# Altium schematic symbol library Schlib1.SchLib: 1 symbol
Pins are listed as number, name and electrical type; pins without a type are passive.

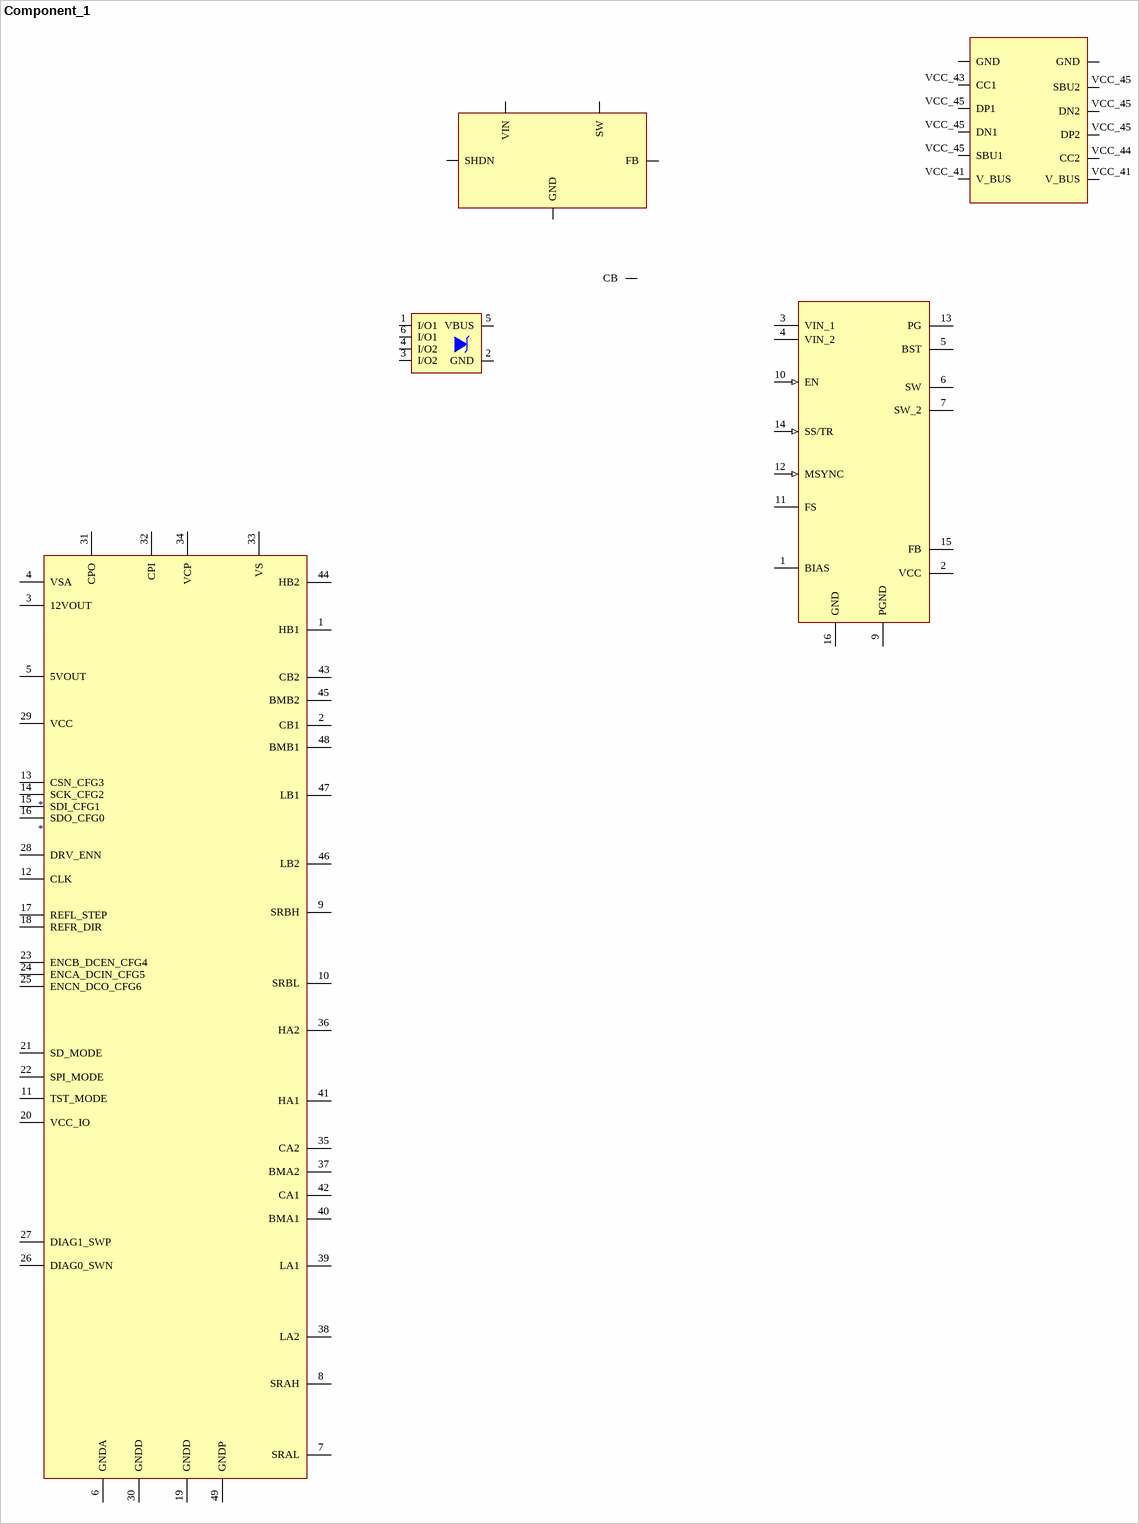
[diagram p0: symbol Component_1]

## Component_1
designator *
footprint SOT-23-6
pins: 1 CB, 1 SW, 1 BIAS (power), 1 I/O1, 1 HB1, 2 GND, 2 VCC (power), 2 GND, 2 CB1, 3 FB, 3 VIN_1 (power), 3 I/O2, 3 12VOUT, 4 SHDN, 4 VIN_2 (power), 4 I/O2, 4 VSA, 5 VIN, 5 BST (power), 5 VBUS, 5 5VOUT, 6 SW (power), 6 I/O1, 6 GNDA, 7 SW_2 (power), 7 SRAL, 8 SRAH, 9 PGND (power), 9 SRBH, 10 EN (in), 10 SRBL, 11 FS (power), 11 TST_MODE, 12 MSYNC (in), 12 CLK, 13 PG (power), 13 CSN_CFG3, 14 SS/TR (in), 14 SCK_CFG2, 15 FB (power), 15 SDI_CFG1, 16 GND (power), 16 SDO_CFG0, 17 REFL_STEP, 18 REFR_DIR, 19 GNDD, 20 VCC_IO, 21 SD_MODE, 22 SPI_MODE, 23 ENCB_DCEN_CFG4, 24 ENCA_DCIN_CFG5, 25 ENCN_DCO_CFG6, 26 DIAG0_SWN, 27 DIAG1_SWP, 28 DRV_ENN, 29 VCC, 30 GNDD, 31 CPO, 32 CPI, 33 VS, 34 VCP, 35 CA2, 36 HA2, 37 BMA2, 38 LA2, 39 LA1, 40 BMA1, 41 HA1, 42 CA1, 43 CB2, 44 HB2, 45 BMB2, 46 LB2, 47 LB1, 48 BMB1, 49 GNDP, ?1 GND, ?2 GND, VCC_41 V_BUS, VCC_41 V_BUS, VCC_43 CC1, VCC_44 CC2, VCC_45 DP1, VCC_45 DP2, VCC_45 DN2, VCC_45 DN1, VCC_45 SBU1, VCC_45 SBU2